# EAGLE library part ATTINY85V-10SH (library PiezoFFC)
Atmel 8-bit AVR Microcontroller,SOIC-8
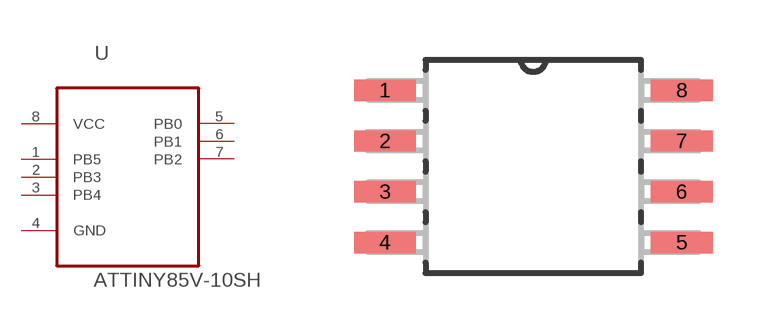
[diagram p16: symbol with the pads of SOIC127P789X216-8N; footprint SOIC127P789X216-8N]

Designator prefix U

## ATTINY85V-10SH (MPN: ATTINY85V-10SH; OC_FARNELL: Unknown; OC_NEWARK: 68T3815; PACKAGE: SOIC-8; SUPPLIER: ATMEL)  [SOIC127P789X216-8N]
1  PB5
2  PB3
3  PB4
4  GND  pas
5  PB0
6  PB1
7  PB2
8  VCC  pwr

## Footprint SOIC127P789X216-8N (pad centres in mm)
smd 1.549 x 0.533: 1 -3.708,1.905; 2 -3.708,0.635; 3 -3.708,-0.635; 4 -3.708,-1.905; 5 3.708,-1.905; 6 3.708,-0.635; 7 3.708,0.635; 8 3.708,1.905